# Altium schematic symbol library SFV8R-1STBE1HLF FPC.SchLib: 1 symbol
Pins are listed as number, name and electrical type; pins without a type are passive.

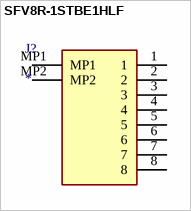
[diagram p0: symbol SFV8R-1STBE1HLF]

## SFV8R-1STBE1HLF
designator J?
Connector; Manufacturer_Name: Amphenol; Manufacturer_Part_Number: SFV8R-1STBE1HLF; Description: FFC & FPC Connectors FFC/FPC CONN; Datasheet Link: https://cdn.amphenol-icc.com/media/wysiwyg/files/drawing/sfv12b_hlf.pdf; Height: 2mm; Mouser Part Number: 649-SFV8R-1STBE1HLF; Mouser Price/Stock: https://www.mouser.co.uk/ProductDetail/Amphenol-FCI/SFV8R-1STBE1HLF?qs=7JiUwvV4mh6yZzCpEOyOjw%3D%3D
footprint SFV8R1STBE1HLF
pins: 1, 2, 3, 4, 5, 6, 7, 8, MP1, MP2